# EAGLE library part MICROSD_MALE (library SKAARHOJ)
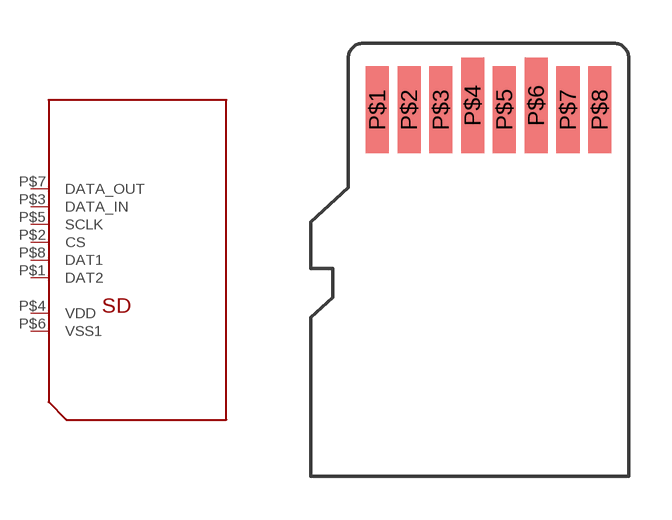
[diagram p97: symbol with the pads of MICRO_SDCARD; footprint MICRO_SDCARD]

Designator prefix -

## MICROSD_MALE  [MICRO_SDCARD]
P$1  DAT2
P$2  CS  in
P$3  DATA_IN  in
P$4  VDD  sup
P$5  SCLK  in
P$6  VSS1  sup
P$7  DATA_OUT  out
P$8  DAT1

## Footprint MICRO_SDCARD (pad centres in mm)
smd 0.8 x 3: P$1 2.3,12.7; P$2 3.4,12.7; P$3 4.5,12.7; P$5 6.7,12.7; P$7 8.9,12.7; P$8 10,12.7
smd 0.8 x 3.3: P$4 5.6,12.85; P$6 7.8,12.85